# Altium footprint library Diode.PcbLib: 17 footprints (part 1 of 2)
Each footprint in its own frame and in the unit in brackets; x right, y up, seen from the top. Pads: shape width x height; smd on the part's side, far side on the other; paste and mask are expansions set on the pad; w line width, h text height; cw(c..) or ccw(c..) is an arc to the next point about the centre after c.
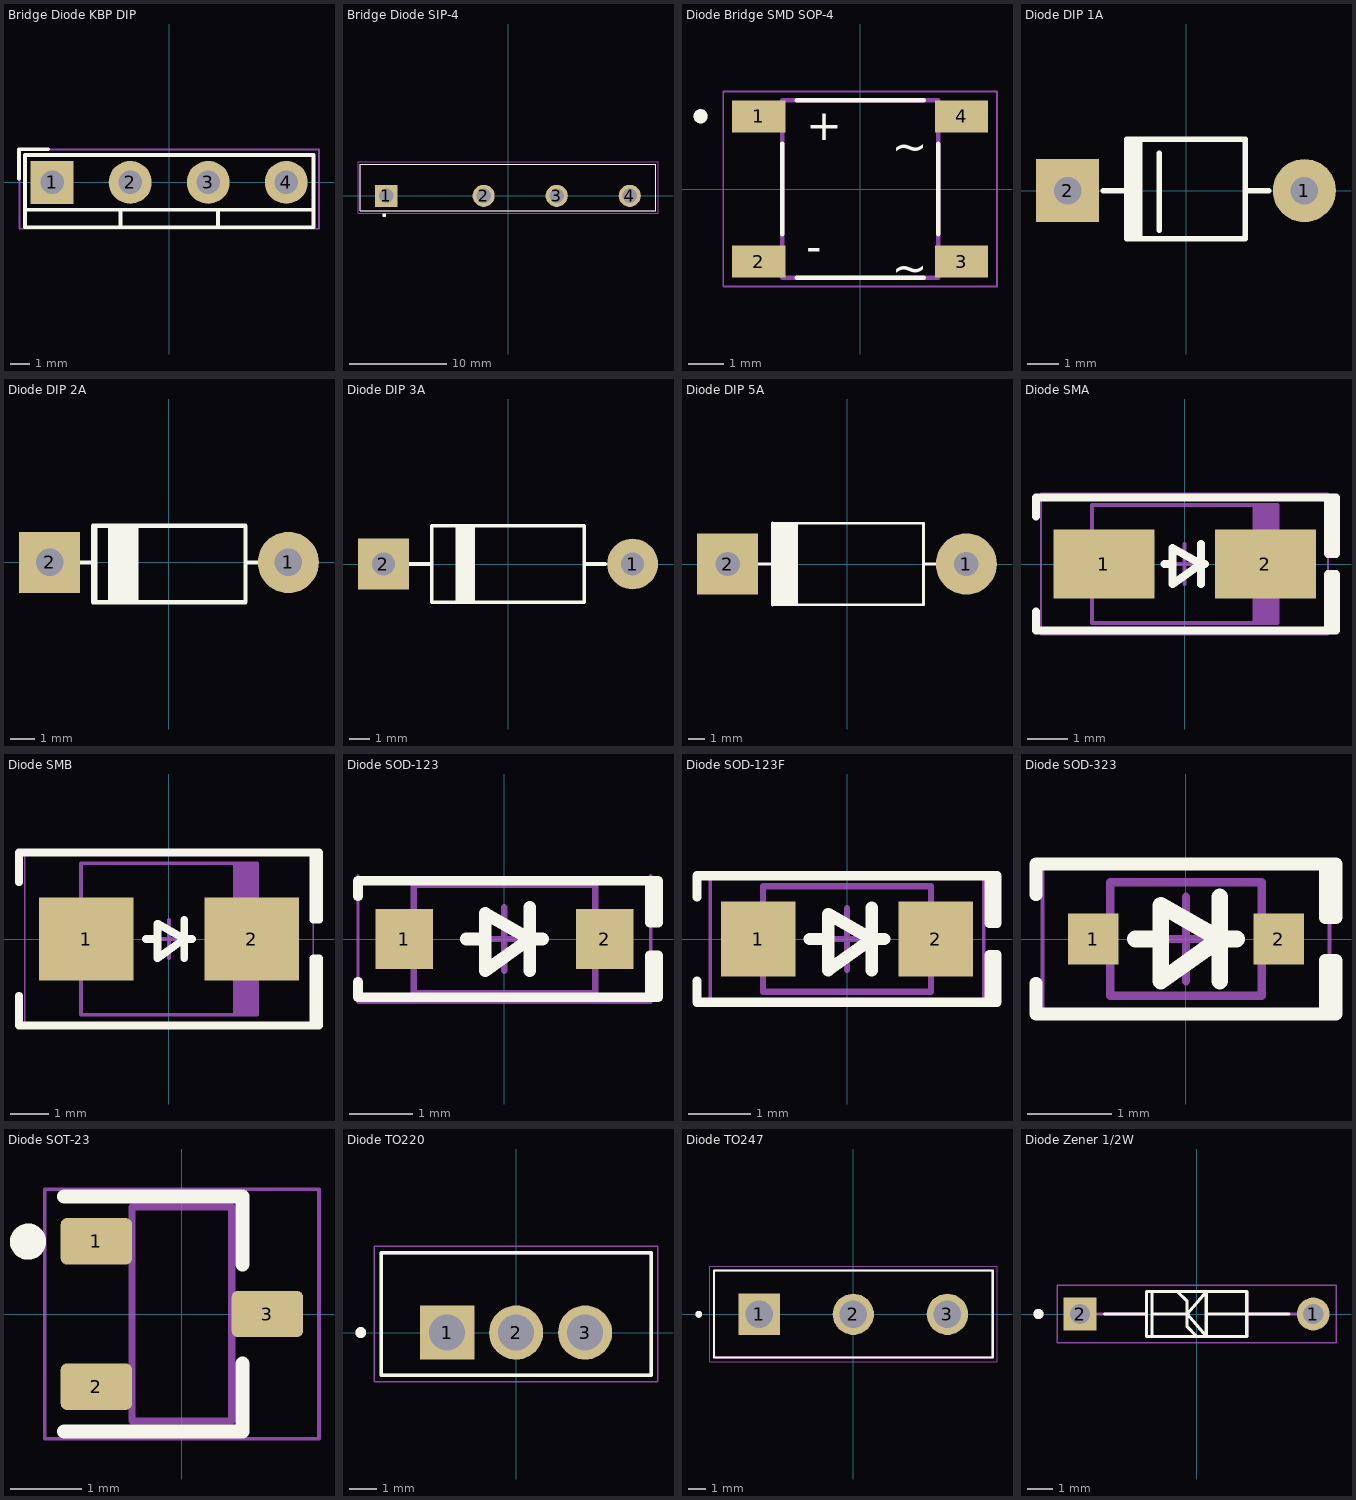
[diagram p0: the footprints below, top view; thin cyan lines are the x and y axes]

## Bridge Diode KBP DIP [mm]
pads (4):
  rect 2.2x2.2 hole 1.2: 1(-6,0)
  round 2.2 hole 1.2: 2(-2,0) 3(2,0) 4(6,0)
Top Overlay:
  lines w0.2: -7.7,0.2 -7.7,1.7 -6.2,1.7 ; -7.4,-1.4 7.4,-1.4 ; -2.5,-2.3 -2.5,-1.4 ; 2.5,-2.3 2.5,-1.4 ; -7.4,-2.3 -7.4,1.4 7.4,1.4 7.4,-2.3 -7.4,-2.3
Mechanical 15:
  lines w0.1: -7.677,-2.377 7.677,-2.377 7.677,1.677 -7.677,1.677 -7.677,-2.377
3D body "p73_KBP.stp": height 12.5, standoff -12.4, extent -7.25,-2.3 7.25,1.2

## Bridge Diode SIP-4 [mm]
pads (4):
  rect 2.27x2.27 hole 1.51: 1(-12.5,0)
  round 2.27 hole 1.51: 2(-2.5,0) 3(5,0) 4(12.5,0)
Top Overlay:
  circle w0.2: c-12.7,-2 r0.1
  lines w0.127: -15.15,-1.55 15.15,-1.55 15.15,3.25 -15.15,3.25 -15.15,-1.55
Mechanical 13:
  circle w0.2: c-12.7,-2 r0.1
  lines w0.127: -15.15,-1.55 15.15,-1.55 15.15,3.25 -15.15,3.25 -15.15,-1.55
Mechanical 15:
  lines w0.05: -15.4,-1.8 15.4,-1.8 15.4,3.5 -15.4,3.5 -15.4,-1.8
3D body "step_temp.STEP": height 24.5, standoff -13.8, extent -15,-1.45 15,3.15

## Diode Bridge SMD SOP-4 [mm]
pads (4):
  rect 1.5x0.9 smd: 1(-2.86,2.05) 2(-2.86,-2.05) 3(2.86,-2.05) 4(2.86,2.05)
Top Overlay:
  circle w0.2: c-4.5,2.05 r0.1
  lines w0.127: -2.2,-1.28 -2.2,1.28 ; -1.79,-2.5 1.79,-2.5 ; -1.79,2.5 1.79,2.5 ; 2.2,-1.28 2.2,1.28
  text "+" at -1.524,1.376 h0.89
  text "-" at -1.524,-2.053 h0.89
  text "~" at 0.889,0.783 h0.89
  text "~" at 0.889,-2.646 h0.89
Mechanical 13:
  circle w0.2: c-4.5,2.05 r0.1
  lines w0.127: -2.2,-2.5 -2.2,2.5 2.2,2.5 2.2,-2.5 -2.2,-2.5
Mechanical 15:
  lines w0.05: -3.86,-2.75 -3.86,2.75 3.86,2.75 3.86,-2.75 -3.86,-2.75
3D body "step_temp.STEP": height 1.6, standoff 0, extent -3.225,-2.5 3.225,2.5

## Diode DIP 1A [mil]
pads (2):
  round 80 hole 35: 1(150,0)
  rect 80x80 hole 35: 2(-150,0)
Top Overlay:
  rectangle: -75,-60.98 -55,65
  lines w7: -105,0 -75,0 ; -75,-16 -75,0 ; -75,21 -75,0 ; -34,-50 -34,47 ; 75,0 105,0 ; -75,0 -75,-60.98 75,-60.98 75,65 -75,65 -75,0
3D body "User Library-DO-15-1.step": height 122.05, standoff -137.8, extent -165.75,-60.98 165.75,65

## Diode DIP 2A [mil]
pads (2):
  round 100 hole 45: 1(195,0)
  rect 100x100 hole 45: 2(-195,0)
Top Overlay:
  rectangle: -100,-65 -50,60
  lines w7: -159,0 -124,0 ; -124,-31 -124,0 ; -124,32 -124,0 ; -120,-65 -120,60 ; 125,0 171,0 ; -124,-65 -124,60 125,60 125,-65 -124,-65
3D body "User Library-DO-15-1 (1).step": height 112.99, standoff -146.85, extent -215.75,-65 215.75,60.98

## Diode DIP 3A [mil]
pads (2):
  round 100 hole 45: 1(245,0)
  rect 100x100 hole 45: 2(-245,0)
Top Overlay:
  rectangle: -100,-75 -65,75
  lines w7: -194,0 -150,0 ; -100,-75 -100,75 ; 155,0 191,0 ; -150,-75 -150,75 150,75 150,-75 -150,-75
3D body "User Library-DO15A_12_6.step": height 141.73, standoff -7.87, extent -265.75,-71.73 265.75,70

## Diode DIP 5A [mil]
pads (2):
  round 150 hole 60: 1(292.5,0)
  rect 150x150 hole 60: 2(-292.5,0)
Top Overlay:
  rectangle: -182.5,-100 -119.5,100
  lines w7: -217.5,0 -149.5,0 ; -182.5,-100 187.5,-100 187.5,100 -182.5,100 ; 187.5,0 222.5,0
  lines w7.87: -182.5,-100 -182.5,100
3D body "SW3dPS-BYW98.STEP": height 210.63, standoff -129.92, extent -319.37,-106 322.37,102.66

## Diode SMA [mm]
pads (2):
  rect 2.5x1.7 smd: 1(-2,0) 2(2,0)
Top Overlay:
  lines w0.2: -3.683,-1.175 -3.683,-1.651 3.75,-1.651 3.75,-0.254 3.556,-0.254 3.556,-1.651 ; -3.683,1.175 -3.683,1.651 3.75,1.651 3.75,0.254 3.556,0.254 3.556,1.651 ; -0.5,0 -0.3,0 ; 0.4,-0.5 0.4,0.5 ; 0.5,0 0.4,0 ; 0.4,0 -0.3,-0.5 -0.3,0.4 0.4,0
Mechanical 13:
  rectangle: 1.681,-1.46 2.3,1.46
  lines w0.1: -2.3,-1.46 2.3,-1.46 2.3,1.46 -2.3,1.46 -2.3,-1.46
Mechanical 15:
  lines w0.05: -3.556,-1.75 3.556,-1.75 3.556,1.75 -3.556,1.75 -3.556,-1.75
  lines w0.1: -0.5,0 0.5,0 ; 0,-0.5 0,0.5
3D body "SMA.STEP": height 2.4, standoff 0, extent -2.6,-1.375 2.6,1.375

## Diode SMB [mm]
pads (2):
  rect 2.45x2.15 smd: 1(-2.15,0) 2(2.15,0)
Top Overlay:
  lines w0.2: -3.9,-1.475 -3.9,-2.25 3.9,-2.25 3.9,-0.5 3.75,-0.5 3.75,-2.25 ; -3.9,1.475 -3.9,2.25 3.9,2.25 3.9,0.5 3.75,0.5 3.75,2.25 ; -0.6,0 -0.3,0 ; 0.4,-0.5 0.4,0.5 ; 0.6,0 0.4,0 ; 0.4,0 -0.3,0.4 -0.3,-0.5 0.4,0
Mechanical 13:
  rectangle: 1.67,-1.97 2.285,1.97
  lines w0.1: -2.285,-1.97 2.285,-1.97 2.285,1.97 -2.285,1.97 -2.285,-1.97
Mechanical 15:
  lines w0.05: -3.75,-2.25 3.75,-2.25 3.75,2.25 -3.75,2.25 -3.75,-2.25
  lines w0.1: -0.5,0 0.5,0 ; 0,-0.5 0,0.5
3D body "SMB.STEP": height 2.4, standoff 0, extent -2.6,-1.799 2.6,1.8

## Diode SOD-123 [mm]
pads (2):
  rect 0.9x0.95 smd: 1(-1.575,0) 2(1.575,0)
Top Overlay:
  lines w0.15: -2.3,-0.675 -2.3,-0.916 2.286,-0.916 ; -2.3,0.675 -2.3,0.916 2.286,0.916 ; 2.286,-0.916 2.413,-0.916 2.413,-0.254 2.286,-0.254 2.286,-0.916 ; 2.286,0.916 2.286,0.254 2.413,0.254 2.413,0.916 2.286,0.916
  lines w0.2: -0.6,0 -0.3,0 ; 0.4,-0.5 0.4,0.5 ; 0.6,0 0.4,0 ; 0.4,0 -0.3,0.4 -0.3,-0.5 0.4,0
Mechanical 13:
  lines w0.1: -1.425,-0.85 -1.425,0.85 1.425,0.85 1.425,-0.85 -1.425,-0.85
Mechanical 15:
  lines w0.05: -2.3,0.9 2.3,0.9 ; -2.3,1 -2.3,-1 2.3,-1 2.3,1
  lines w0.1: -0.5,0 0.5,0 ; 0,-0.5 0,0.5
3D body "SOD-123.STEP": height 1.35, standoff 0, extent -1.864,-0.775 1.864,0.775

## Diode SOD-123F [mm]
pads (2):
  rect 1.2x1.2 smd: 1(-1.43,0) 2(1.43,0)
Top Overlay:
  lines w0.15: -2.413,-0.675 -2.413,-1.016 2.286,-1.016 ; -2.413,0.675 -2.413,1.016 2.286,1.016 ; 2.286,-1.016 2.286,-0.254 2.413,-0.254 2.413,-1.016 2.286,-1.016 ; 2.286,1.016 2.413,1.016 2.413,0.254 2.286,0.254 2.286,1.016
  lines w0.2: -0.6,0 -0.3,0 ; 0.4,-0.5 0.4,0.5 ; 0.6,0 0.4,0 ; 0.4,0 -0.3,-0.5 -0.3,0.4 0.4,0
Mechanical 13:
  lines w0.1: -1.35,-0.85 1.35,-0.85 1.35,0.85 -1.35,0.85 -1.35,-0.85
Mechanical 15:
  lines w0.05: -2.2,-1 2.2,-1 2.2,1 -2.2,1 -2.2,-1
  lines w0.1: -0.5,0 0.5,0 ; 0,-0.5 0,0.5
3D body "SOD123F.STEP": height 1.1, standoff 0, extent -1.75,-0.8 1.75,0.8

## Diode SOD-323 [mm]
pads (2):
  rect 0.6x0.6 smd: 1(-1.1,0) 2(1.1,0)
Top Overlay:
  lines w0.15: -1.778,-0.525 -1.778,-0.889 1.778,-0.889 1.778,-0.254 1.651,-0.254 1.651,-0.889 ; -1.778,0.525 -1.778,0.889 1.778,0.889 1.778,0.254 1.651,0.254 1.651,0.889
  lines w0.2: -0.6,0 -0.3,0 ; 0.4,-0.5 0.4,0.5 ; 0.6,0 0.4,0 ; 0.4,0 -0.3,0.4 -0.3,-0.5 0.4,0
Mechanical 13:
  lines w0.1: -0.9,-0.675 -0.9,0.675 0.9,0.675 0.9,-0.675 -0.9,-0.675
Mechanical 15:
  lines w0.05: -1.7,-0.85 -1.7,0.85 1.7,0.85 1.7,-0.85 -1.7,-0.85
  lines w0.1: -0.5,0 0.5,0 ; 0,-0.5 0,0.5
3D body "SOD323F.STEP": height 0.8, standoff 0, extent -1.25,-0.625 1.25,0.625

## Diode SOT-23 [mm]
pads (3):
  rrect25% 1x0.65 smd: 1(-1.2,1.02) 2(-1.2,-1.02) 3(1.2,0)
Top Overlay:
  circle w0.254: c-2.159,1.016 r0.127
  lines w0.2: -1.651,-1.651 -0.3,-1.65 0.85,-1.65 0.85,-0.7 ; -1.65,1.65 0.85,1.65 0.85,0.7
Mechanical 13:
  lines w0.1: -0.7,-1.5 0.7,-1.5 0.7,1.5 -0.7,1.5 -0.7,-1.5
Mechanical 15:
  lines w0.05: -1.925,-1.75 1.925,-1.75 1.925,1.75 -1.925,1.75 -1.925,-1.75
3D body "p200_SOT-23.stp": height 1.3, standoff 0, extent -1.3,-1.52 1.3,1.52

## Diode TO220 [mm]
pads (3):
  rect 1.995x1.995 hole 1.33: 1(-2.54,0)
  round 1.995 hole 1.33: 2(0,0) 3(2.54,0)
Top Overlay:
  circle w0.2: c-5.725,0 r0.1
  lines w0.127: -4.975,-1.565 -4.975,2.935 4.975,2.935 4.975,-1.565 -4.975,-1.565
Mechanical 13:
  circle w0.2: c-5.725,0 r0.1
  lines w0.127: -4.975,-1.565 -4.975,2.935 4.975,2.935 4.975,-1.565 -4.975,-1.565
Mechanical 15:
  lines w0.05: -5.225,-1.815 -5.225,3.185 5.225,3.185 5.225,-1.815 -5.225,-1.815
3D body "MBRF10200CT.STEP": height 19.6, standoff -9.7, extent -4.975,-1.615 4.975,2.885

## Diode TO247 [mm]
pads (3):
  rect 2.39x2.39 hole 1.59: 1(-5.45,0)
  round 2.39 hole 1.59: 2(0,0) 3(5.45,0)
Top Overlay:
  circle w0.2: c-8.955,0 r0.1
  lines w0.127: -8.075,-2.498 -8.075,2.532 8.075,2.532 8.075,-2.498 -8.075,-2.498
Mechanical 13:
  circle w0.2: c-8.955,0 r0.1
  lines w0.127: -8.075,-2.498 -8.075,2.532 8.075,2.532 8.075,-2.498 -8.075,-2.498
Mechanical 15:
  lines w0.05: -8.325,-2.748 -8.325,2.782 8.325,2.782 8.325,-2.748 -8.325,-2.748
3D body "MBR30100PT.STEP": height 25.4, standoff -16.1, extent -8.075,-2.54 8.075,2.49

## Diode Zener 1/2W [mm]
pads (2):
  round 1.308 hole 0.8: 1(4.64,0)
  rect 1.308x1.308 / inner round 1.308 / far side rect 1.308x1.308 hole 0.8: 2(-4.64,0)
Top Overlay:
  circle w0.2: c-6.294,0 r0.1
  lines w0.127: -3.666,0 -1.995,0 ; -1.778,-0.889 -1.778,0.889 ; -1.778,0 -0.381,0 ; -0.762,0.889 -0.381,0.508 -0.381,-0.508 0,-0.895 ; 0.381,0 1.995,0 ; 3.666,0 1.995,0 ; -1.995,0 -1.995,-0.895 1.995,-0.895 1.995,0 ; -1.995,0 -1.995,0.895 1.995,0.895 1.995,0 ; -0.381,0 0.381,-0.889 0.381,0.889 -0.381,0
Mechanical 13:
  circle w0.2: c-6.294,0 r0.1
  lines w0.127: -4.64,0 -1.995,0 ; 4.64,0 1.995,0 ; -1.995,0 -1.995,-0.895 1.995,-0.895 1.995,0 ; -1.995,0 -1.995,0.895 1.995,0.895 1.995,0
Mechanical 15:
  lines w0.05: -5.544,-1.145 5.544,-1.145 5.544,1.145 -5.544,1.145 -5.544,-1.145
3D body "1N5226B R0G.STEP": height 2.28, standoff -19.62, extent -4.875,-1.14 4.875,1.14